# Altium footprint library 4-SMD.PcbLib: 2 footprints
Each footprint in its own frame and in the unit in brackets; x right, y up, seen from the top. Pads: shape width x height; smd on the part's side, far side on the other; paste and mask are expansions set on the pad; w line width, h text height; cw(c..) or ccw(c..) is an arc to the next point about the centre after c.
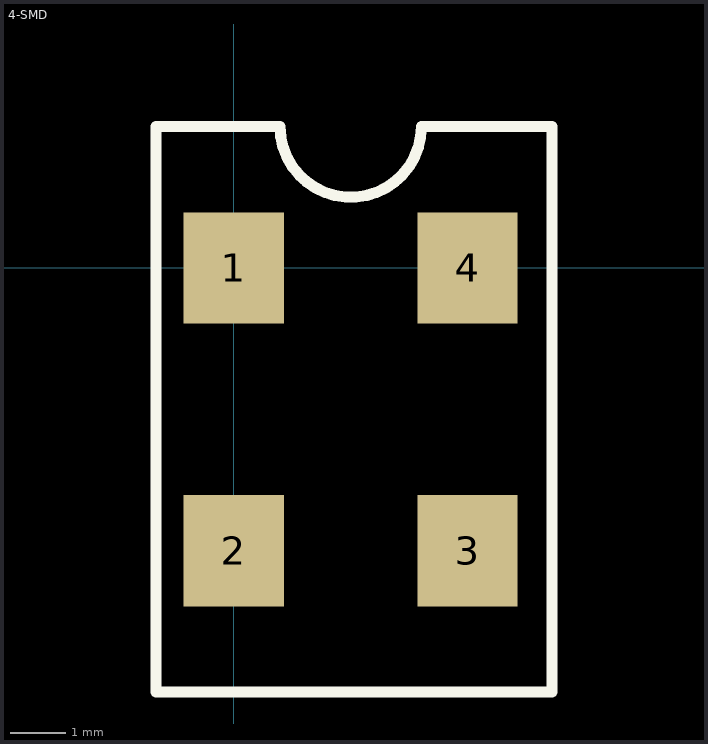
[diagram p0: the footprints below, top view; thin cyan lines are the x and y axes]

## 4-SMD [mm]
pads (4):
  rect 1.8x2 smd: 1(0,0) 2(0,-5.08) 3(4.2,-5.08) 4(4.2,0)
Top Overlay:
  lines w0.2: -1.397,-7.62 5.715,-7.62 5.715,2.54 3.37,2.54 cw(c2.1,2.54) 0.83,2.54 -1.397,2.54 -1.397,-7.62

## PCBComponent_1 [mm]